# Altium schematic symbol library LaserDiode_Driver.SchLib: 93 symbols (part 3 of 3)
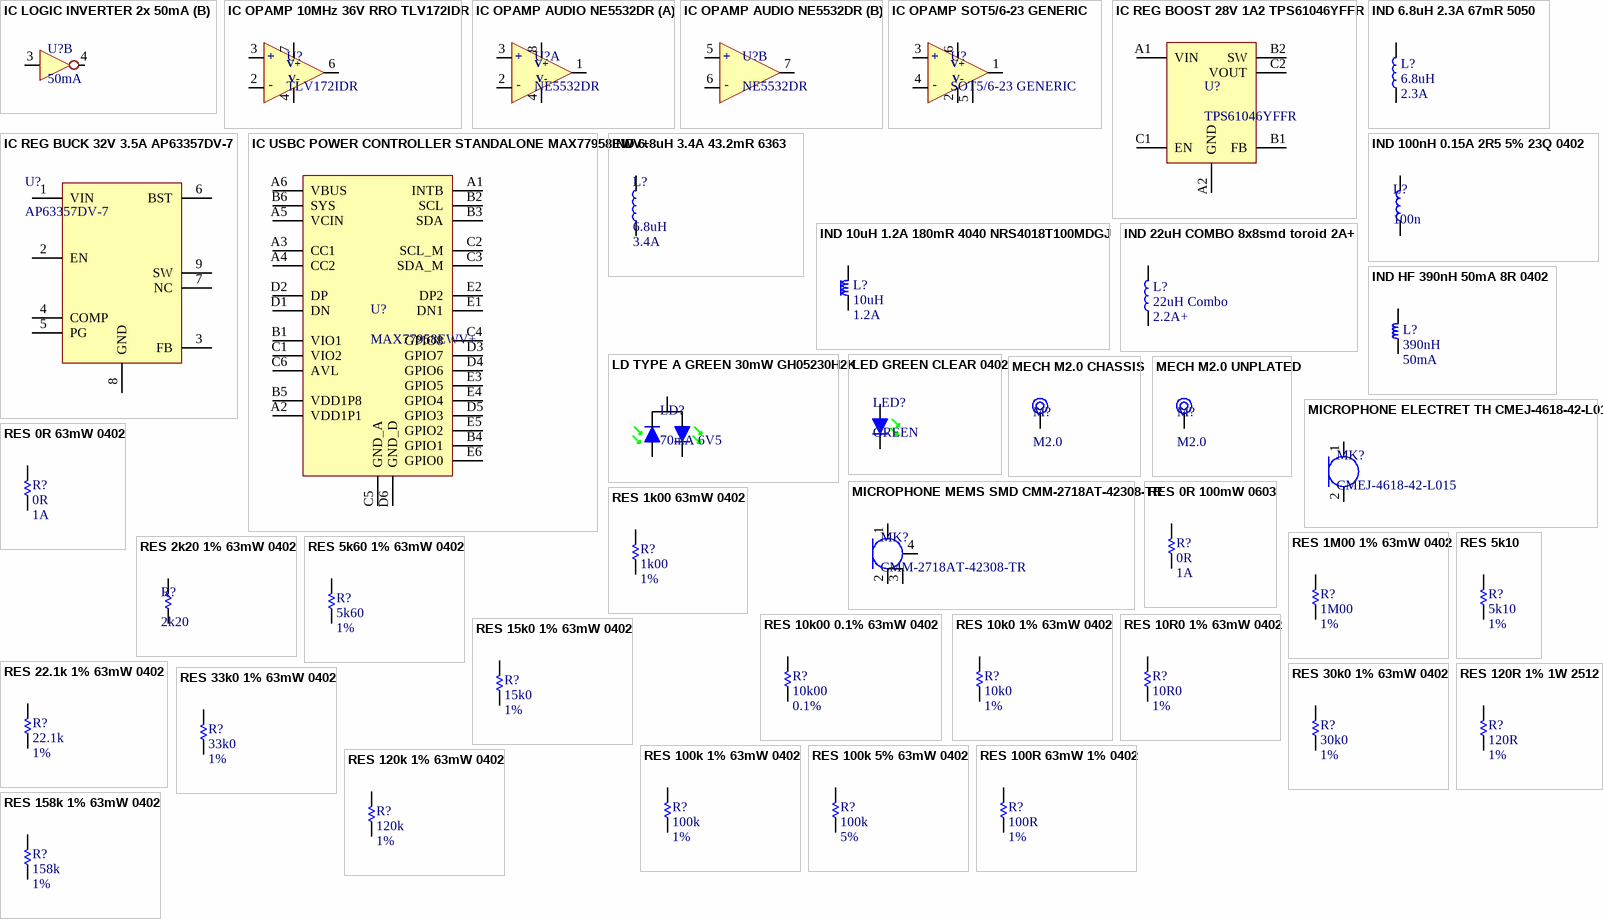
[diagram p4: symbols IC LOGIC INVERTER 2x 50mA to RES 158k 1% 63mW 0402]

## RES 10k0 1% 63mW 0402
designator R?, comment 10k0  Tolerance: 1%
Res General Purpose Thick Film 0402 10K Ohm 1% 1/16W ±100ppm/°C Molded SMD Paper T/R; Manufacturer: Yageo; Manufacturer Part Number: RC0402FR-0710KL; Resistance: 10kR; Voltage Rating (DC): 50V; Power Rating: 62.5mW; Max Power Dissipation: 63mW; Supplier 1: RSComponents; RoHS: Yes; Category: Chip SMD Resistors; Stock 1: 29900; Pricing 1: 10000=0.00300 (GBP); Case/Package: 0402; Number of Pins: 2; Case Code (Imperial): 0402; Case Code (Metric): 1005; Min Operating Temperature: -55°C; Max Operating Temperature: 155°C; Resistor Type: Thick Film; Temperature Coefficient: 100ppm/°C; Packaging: Tape and Reel; Voltage Rating: 50V; Termination: SMD/SMT; Working Voltage: 50V; Number of Terminations: 2; Features: Moisture Resistant; Series: RC; Resistance Tolerance: 1%; Construction: Rectangular; Length: 1mm; Width: 0.5mm; Height: 0.32mm; Depth: 0.5mm; Lead Pitch: 0.2mm; REACH SVHC: No SVHC; Lead Free: Lead Free; RoHS Compliant: Yes; Military Standard: Not; ComponentLink1URL: https://datasheet.ciiva.com/7660/38568-7660787.pdf?src-supplier=Element14; ComponentLink1Description: https://datasheet.ciiva.com/7660/38568-7660787.pdf?src-supplier=Element14; ComponentLink2URL: https://datasheet.ciiva.com/12667/pyu-rc0402-51-rohs-l-6-r-12667067.pdf?src-supplier=Mouser; ComponentLink2Description: https://datasheet.ciiva.com/12667/pyu-rc0402-51-rohs-l-6-r-12667067.pdf?src-supplier=Mouser; ComponentLink3URL: https://datasheet.ciiva.com/7849/1784430-7849813.pdf?src-supplier=Element14; ComponentLink3Description: https://datasheet.ciiva.com/7849/1784430-7849813.pdf?src-supplier=Element14; ComponentLink4URL: https://datasheet.ciiva.com/7849/1686128-7849814.pdf?src-supplier=Element14; ComponentLink4Description: https://datasheet.ciiva.com/7849/1686128-7849814.pdf?src-supplier=Element14; ComponentLink5URL: https://datasheet.ciiva.com/7849/1784430-7849815.pdf?src-supplier=Element14; ComponentLink5Description: https://datasheet.ciiva.com/7849/1784430-7849815.pdf?src-supplier=Element14; ComponentLink6URL: https://datasheet.ciiva.com/7983/1018594-7983486.pdf?src-supplier=Element14; ComponentLink6Description: https://datasheet.ciiva.com/7983/1018594-7983486.pdf?src-supplier=Element14; ComponentLink7URL: https://datasheet.ciiva.com/22747/1018594-22747512.pdf?src-supplier=Element14; ComponentLink7Description: https://datasheet.ciiva.com/22747/1018594-22747512.pdf?src-supplier=Element14; Supplier Part Number 1: 1987643
footprint r0402
pins: 1, 2

## RES 10R0 1% 63mW 0402
designator R?, comment 10R0  Tolerance: 1%
Res Thick Film 0402 10 Ohm 1% 0.063W(1/16W) ±100ppm/C Pad SMD T/R; Manufacturer: Samsung; Manufacturer Part Number: RC1005F100CS; Resistance: 10R; Max Power Dissipation: 63mW; Temperature Coefficient: 100ppm/°C; Voltage Rating (DC): 50V; Supplier 1: Digi-Key; RoHS: Yes; Category: Chip SMD Resistors; Stock 1: 7440; Pricing 1: 1=0.10000, 10=0.01800, 100=0.00720, 1000=0.00323, 2500=0.00281, 5000=0.00232 (USD); Case/Package: 0402; Case Code (Metric): 1005; Case Code (Imperial): 0402; Contact Plating: Tin; Min Operating Temperature: -55°C; Max Operating Temperature: 155°C; Packaging: Tape and Reel; Resistor Type: Thick Film; Package Quantity: 1; Number of Terminations: 2; Features: Moisture Resistant; Series: RC; Construction: Rectangular; Length: 0.039inch; Width: 0.02inch; Height: 0.016inch; Depth: 0.5mm; Radiation Hardening: No; Military Standard: Not; Lead Free: Lead Free; RoHS Compliant: Yes; ComponentLink1URL: http://components.arrow.com/part/dataview/51848233S9968285N4139?src-supplier=Arrow+Electronics; ComponentLink1Description: http://components.arrow.com/part/dataview/51848233S9968285N4139?src-supplier=Arrow+Electronics; ComponentLink2URL: http://components.arrow.com/part/dataview/0323_06900041?src-supplier=Arrow+Europe; ComponentLink2Description: http://components.arrow.com/part/dataview/0323_06900041?src-supplier=Arrow+Europe; ComponentLink3URL: http://www.samsungsem.com/servlet/FileDownload?type=spec&file=RC1005F9090CS.pdf&src-supplier=Avnet; ComponentLink3Description: http://www.samsungsem.com/servlet/FileDownload?type=spec&file=RC1005F9090CS.pdf&src-supplier=Avnet; ComponentLink4URL: http://www.samsungsem.com/kr/support/product-search/chip-resistor/RC1005F100CS.jsp?src-supplier=Digi-Key; ComponentLink4Description: http://www.samsungsem.com/kr/support/product-search/chip-resistor/RC1005F100CS.jsp?src-supplier=Digi-Key; Supplier Part Number 1: 1276-3428-1-ND
footprint R0402
pins: 1, 2

## RES 15k0 1% 63mW 0402
designator R?, comment 15k0  Tolerance: 1%
Res Thick Film 0402 15K Ohm 1% 0.063W(1/16W) ±100ppm/C Pad SMD Automotive T/R; Manufacturer: Stackpole Electronics; Manufacturer Part Number: RMCF0402FT15K0; Resistance: 15kR; Power Rating: 63mW; Temperature Coefficient: 100ppm/°C; Supplier 1: Digi-Key; RoHS: Yes; Category: Chip SMD Resistors; Stock 1: 18382; Pricing 1: 1=0.10000, 10=0.01500, 100=0.00610, 1000=0.00274, 2500=0.00238, 5000=0.00197 (USD); Mount: Surface Mount; Case/Package: 0402; Case Code (Metric): 1005; Case Code (Imperial): 0402; Contact Plating: Tin,Matte; Size Code: 0402; Min Operating Temperature: -55°C; Max Operating Temperature: 155°C; Packaging: Tape and Reel; Resistor Type: Thick Film; Number of Terminations: 2; Max Power Dissipation: 63mW; Features: Automotive AEC-Q200; Series: RMCF; Length: 0.039inch; Width: 0.02inch; Height: 0.016inch; Radiation Hardening: No; Lead Free: Lead Free; RoHS Compliant: Yes; ComponentLink1URL: http://components.arrow.com/part/dataview/50576585S147344N1174?src-supplier=Arrow+Electronics; ComponentLink1Description: http://components.arrow.com/part/dataview/50576585S147344N1174?src-supplier=Arrow+Electronics; ComponentLink2URL: http://www1.futureelectronics.com/doc/STACKPOLE%20ELECTRONICS/RMCF-1__16S-15K-1%25-R.pdf?src-supplier=Future+Electronics; ComponentLink2Description: http://www1.futureelectronics.com/doc/STACKPOLE%20ELECTRONICS/RMCF-1__16S-15K-1%25-R.pdf?src-supplier=Future+Electronics; ComponentLink3URL: https://www.seielect.com/catalog/SEI-RMCF_RMCP.pdf?src-supplier=Avnet; ComponentLink3Description: https://www.seielect.com/catalog/SEI-RMCF_RMCP.pdf?src-supplier=Avnet; ComponentLink4URL: https://www.seielect.com/catalog/sei-rmcf_rmcp.pdf?src-supplier=Digi-Key; ComponentLink4Description: https://www.seielect.com/catalog/sei-rmcf_rmcp.pdf?src-supplier=Digi-Key; Supplier Part Number 1: RMCF0402FT15K0CT-ND
footprint r0402
pins: 1, 2

## RES 22.1k 1% 63mW 0402
designator R?, comment 22.1k  Tolerance: 1%
Res Thick Film 0402 22.1K Ohm 1% 0.063W(1/16W) ±100ppm/°C Pad SMD T/R; Manufacturer: Yageo; Manufacturer Part Number: RC0402FR-0722K1L; Resistance: 22.1kR; Power Rating: 62.5mW; Voltage Rating: 50V; Max Power Dissipation: 63mW; Supplier 1: Newark; RoHS: Yes; Category: Chip SMD Resistors; Stock 1: 107993; Pricing 1: 1=0.06100, 10=0.00800, 25=0.00600, 50=0.00500, 100=0.00300 (USD); Case/Package: 0402; Case Code (Metric): 1005; Case Code (Imperial): 0402; Min Operating Temperature: -55°C; Max Operating Temperature: 155°C; Package Quantity: 1; Packaging: Tape and Reel; Resistor Type: Thick Film; Number of Terminations: 2; Termination: SMD/SMT; Temperature Coefficient: 100ppm/°C; Voltage Rating (DC): 50V; Working Voltage: 50V; Features: Moisture Resistant; Series: RC; Technology: THICK FILM; Resistance Tolerance: 1%; Construction: Rectangular; Length: 0.039inch; Width: 0.02inch; Height: 0.016inch; Depth: 0.5mm; Reach SVHC Compliant: Yes; Military Standard: Not; Lead Free: Lead Free; RoHS Compliant: Yes; ComponentLink1URL: https://datasheet.ciiva.com/7983/1018594-7983501.pdf?src-supplier=Element14; ComponentLink1Description: https://datasheet.ciiva.com/7983/1018594-7983501.pdf?src-supplier=Element14; ComponentLink2URL: https://datasheet.ciiva.com/2553/pyu-r-int-thick-7-2553201.pdf?src-supplier=Digi-Key; ComponentLink2Description: https://datasheet.ciiva.com/2553/pyu-r-int-thick-7-2553201.pdf?src-supplier=Digi-Key; ComponentLink3URL: https://datasheet.ciiva.com/2553/pyu-r-int-thick-7-2553202.pdf?src-supplier=Digi-Key; ComponentLink3Description: https://datasheet.ciiva.com/2553/pyu-r-int-thick-7-2553202.pdf?src-supplier=Digi-Key; ComponentLink4URL: https://datasheet.ciiva.com/2553/pyu-r-int-thick-7-2553200.pdf?src-supplier=Digi-Key; ComponentLink4Description: https://datasheet.ciiva.com/2553/pyu-r-int-thick-7-2553200.pdf?src-supplier=Digi-Key; ComponentLink5URL: https://datasheet.ciiva.com/15189/getdatasheetpartid-251817-15189388.pdf?src-supplier=Verical; ComponentLink5Description: https://datasheet.ciiva.com/15189/getdatasheetpartid-251817-15189388.pdf?src-supplier=Verical; Supplier Part Number 1: 82AH7906
footprint R0402
pins: 1, 2

## RES 30k0 1% 63mW 0402
designator R?, comment 30k0  Tolerance: 1%
Res General Purpose Thick Film 0402 30k Ohm 1% 1/16W ±100ppm/°C Molded Paper T/R; Manufacturer: Yageo; Manufacturer Part Number: RC0402FR-0730KL; Resistance: 30kR; Power Rating: 62.5mW; Voltage Rating: 50V; Max Power Dissipation: 63mW; Supplier 1: Digi-Key; RoHS: Yes; Category: Chip SMD Resistors; Stock 1: 1354843; Pricing 1: 10000=0.00186 (USD); Case/Package: 0402; Case Code (Imperial): 0402; Case Code (Metric): 1005; Weight: 2.3E-05oz; Size Code: 0402; Min Operating Temperature: -55°C; Max Operating Temperature: 155°C; Packaging: Tape and Reel; Termination: SMD/SMT; Resistor Type: Thick Film; Temperature Coefficient: 100ppm/°C; Voltage Rating (DC): 50V; Features: Moisture Resistant; Series: RC; Number of Terminations: 2; Resistance Tolerance: 1%; Construction: Rectangular; Length: 1mm; Width: 0.5mm; Height: 0.35mm; Depth: 0.5mm; RoHS Compliant: Yes; REACH SVHC: Unknown; Military Standard: Not; Lead Free: Lead Free; ComponentLink1URL: https://datasheet.ciiva.com/12577/pyu-rc0402-51-rohs-l-6-r-12577743.pdf?src-supplier=Mouser; ComponentLink1Description: https://datasheet.ciiva.com/12577/pyu-rc0402-51-rohs-l-6-r-12577743.pdf?src-supplier=Mouser; ComponentLink2URL: https://datasheet.ciiva.com/7849/1018594-7849957.pdf?src-supplier=Element14; ComponentLink2Description: https://datasheet.ciiva.com/7849/1018594-7849957.pdf?src-supplier=Element14; ComponentLink3URL: https://datasheet.ciiva.com/46394/1018594-46394938.pdf?src-supplier=Element14; ComponentLink3Description: https://datasheet.ciiva.com/46394/1018594-46394938.pdf?src-supplier=Element14; Supplier Part Number 1: 311-30.0KLRTR-ND
footprint r0402
pins: 1, 2

## RES 33k0 1% 63mW 0402
designator R?, comment 33k0  Tolerance: 1%
Res Thick Film 0402 33K Ohm 1% 0.063W(1/16W) ±100ppm/C Pad SMD T/R; Manufacturer: Samsung; Manufacturer Part Number: RC1005F333CS; Resistance: 33kR; Max Power Dissipation: 63mW; Temperature Coefficient: 100ppm/°C; Voltage Rating (DC): 50V; Supplier 1: Digi-Key; RoHS: Yes; Category: Chip SMD Resistors; Stock 1: 330000; Pricing 1: 10000=0.00695 (USD); Case/Package: 0402; Case Code (Metric): 1005; Case Code (Imperial): 0402; Contact Plating: Tin; Min Operating Temperature: -55°C; Max Operating Temperature: 155°C; Packaging: Tape and Reel; Resistor Type: Thick Film; Package Quantity: 1; Number of Terminations: 2; Features: Moisture Resistant; Series: RC; Construction: Rectangular; Length: 0.039inch; Width: 0.02inch; Height: 0.016inch; Depth: 0.5mm; Radiation Hardening: No; Military Standard: Not; Lead Free: Lead Free; RoHS Compliant: Yes; ComponentLink1URL: http://components.arrow.com/part/dataview/51978774S9968740N4139?src-supplier=Arrow+Electronics; ComponentLink1Description: http://components.arrow.com/part/dataview/51978774S9968740N4139?src-supplier=Arrow+Electronics; ComponentLink2URL: http://components.arrow.com/part/dataview/0323_06900084?src-supplier=Arrow+Europe; ComponentLink2Description: http://components.arrow.com/part/dataview/0323_06900084?src-supplier=Arrow+Europe; ComponentLink3URL: http://www.samsungsem.com/servlet/FileDownload?type=spec&file=RC1005F9090CS.pdf&src-supplier=Avnet; ComponentLink3Description: http://www.samsungsem.com/servlet/FileDownload?type=spec&file=RC1005F9090CS.pdf&src-supplier=Avnet; ComponentLink4URL: http://www.samsungsem.com/kr/support/product-search/chip-resistor/RC1005F333CS.jsp?src-supplier=Digi-Key; ComponentLink4Description: http://www.samsungsem.com/kr/support/product-search/chip-resistor/RC1005F333CS.jsp?src-supplier=Digi-Key; Supplier Part Number 1: 1276-3461-2-ND
footprint r0402
pins: 1, 2

## RES 100k 1% 63mW 0402
designator R?, comment 100k  Tolerance: 1%
Res Thick Film 0402 100K Ohm 1% 0.063W ±100ppm/°C Molded SMD Paper T/R; Manufacturer: Stackpole Electronics; Manufacturer Part Number: RMCF0402FT100K; Resistance: 100kR; Power Rating: 62.5mW; Max Power Dissipation: 63mW; Supplier 1: Avnet; RoHS: Yes; Category: Chip SMD Resistors; Stock 1: 3260000; Pricing 1: 10000=0.00170, 20000=0.00168, 40000=0.00163, 60000=0.00160, 80000=0.00154, 100000=0.00150, 1000000=0.00146 (USD); Mount: Surface Mount; Case/Package: 0402; Case Code (Metric): 1005; Case Code (Imperial): 0402; Contact Plating: Tin,Matte; Size Code: 0402; Min Operating Temperature: -55°C; Max Operating Temperature: 155°C; Packaging: Tape and Reel; Resistor Type: Thick Film; Number of Terminations: 2; Temperature Coefficient: 100ppm/°C; Features: Automotive AEC-Q200; Series: RMCF; Construction: Rectangular; Length: 1mm; Width: 0.02inch; Height: 0.016inch; Depth: 0.5mm; Radiation Hardening: No; Military Standard: Not; Lead Free: Lead Free; RoHS Compliant: Yes; ComponentLink1URL: https://datasheet.ciiva.com/15193/getdatasheetpartid-482656-15193415.pdf?src-supplier=Verical; ComponentLink1Description: https://datasheet.ciiva.com/15193/getdatasheetpartid-482656-15193415.pdf?src-supplier=Verical; Supplier Part Number 1: RMCF0402FT100K
footprint r0402
pins: 1, 2

## RES 100k 5% 63mW 0402
designator R?, comment 100k  Tolerance: 5%
Res Thick Film 0402 100K Ohm 5% 1/16W ±200ppm/°C Molded SMD SMD; Manufacturer: TE Connectivity; Manufacturer Part Number: CRG0402J100K/10; Resistance: 100kR; Power Rating: 63mW; Voltage Rating (DC): 50V; Supplier 1: Digi-Key; RoHS: Yes; Category: Chip SMD Resistors; Stock 1: 463648; Pricing 1: 1=0.10000, 10=0.02000, 100=0.00820, 1000=0.00369, 2500=0.00320, 5000=0.00264 (USD); Mount: Surface Mount; Case/Package: 0402; Case Code (Imperial): 0402; Weight: 2.3E-05oz; Min Operating Temperature: -55°C; Max Operating Temperature: 125°C; Package Quantity: 10000; Packaging: Tape and Reel; Resistor Type: Thick Film; Number of Terminations: 2; Temperature Coefficient: 200ppm/°C; Max Power Dissipation: 63mW; Voltage Rating: 50V; Series: CRG, Neohm; Termination: SMD/SMT; Technology: THICK FILM; Construction: Rectangular; Resistance Tolerance: 5%; Length: 1mm; Width: 0.5mm; Height: 0.35mm; Depth: 0.5mm; Radiation Hardening: No; Military Standard: Not; ELV: Compliant; REACH SVHC: Unknown; RoHS Compliant: Yes; ComponentLink1URL: https://datasheet.ciiva.com/11810/0900766b800a696e-11810123.pdf?src-supplier=RSComponents; ComponentLink1Description: https://datasheet.ciiva.com/11810/0900766b800a696e-11810123.pdf?src-supplier=RSComponents; ComponentLink2URL: https://datasheet.ciiva.com/30197/eng-ds-1773204-e-30197534.pdf?src-supplier=Onlinecomponents.com; ComponentLink2Description: https://datasheet.ciiva.com/30197/eng-ds-1773204-e-30197534.pdf?src-supplier=Onlinecomponents.com; ComponentLink3URL: https://datasheet.ciiva.com/2529/eng-ds-1773204-i-2529694.pdf?src-supplier=Digi-Key; ComponentLink3Description: https://datasheet.ciiva.com/2529/eng-ds-1773204-i-2529694.pdf?src-supplier=Digi-Key; Supplier Part Number 1: A121521CT-ND
footprint R0402
pins: 1, 2

## RES 100R 63mW 1% 0402
designator R?, comment 100R  Tolerance: 1%
Res General Purpose Thick Film 0402 100 Ohm 1% 1/16W ±100ppm/°C Molded SMD Paper T/R; Manufacturer: Yageo; Manufacturer Part Number: RC0402FR-07100RL; Power Rating: 62.5mW; Voltage Rating: 50V; Max Power Dissipation: 63mW; Supplier 1: Newark; RoHS: Yes; Category: Chip SMD Resistors; Stock 1: 4390000; Pricing 1: 1=0.00100, 10000=0.00100 (USD); Case/Package: 0402; Number of Pins: 2; Case Code (Imperial): 0402; Case Code (Metric): 1005; Size Code: 0402; Min Operating Temperature: -55°C; Max Operating Temperature: 155°C; Voltage Rating (DC): 50V; Resistance: 100R; Packaging: Tape and Reel; Termination: SMD/SMT; Resistor Type: Thick Film; Temperature Coefficient: 100ppm/°C; Features: Moisture Resistant; Series: RC; Number of Terminations: 2; Resistance Tolerance: 1%; Construction: Rectangular; Technology: THICK FILM; Length: 1mm; Width: 0.5mm; Height: 0.32mm; Depth: 0.5mm; RoHS Compliant: Yes; Reach SVHC Compliant: Yes; Military Standard: Not; Lead Free: Lead Free; ComponentLink1URL: https://datasheet.ciiva.com/11808/0900766b80c66297-11808765.pdf?src-supplier=RSComponents; ComponentLink1Description: https://datasheet.ciiva.com/11808/0900766b80c66297-11808765.pdf?src-supplier=RSComponents; ComponentLink2URL: https://datasheet.ciiva.com/7849/1784430-7849810.pdf?src-supplier=Element14; ComponentLink2Description: https://datasheet.ciiva.com/7849/1784430-7849810.pdf?src-supplier=Element14; ComponentLink3URL: https://datasheet.ciiva.com/28367/1018594-28367226.pdf?src-supplier=Element14; ComponentLink3Description: https://datasheet.ciiva.com/28367/1018594-28367226.pdf?src-supplier=Element14; ComponentLink4URL: https://datasheet.ciiva.com/22747/1018594-22747511.pdf?src-supplier=Element14; ComponentLink4Description: https://datasheet.ciiva.com/22747/1018594-22747511.pdf?src-supplier=Element14; ComponentLink5URL: https://datasheet.ciiva.com/12667/pyu-rc0402-51-rohs-l-6-r-12667957.pdf?src-supplier=Mouser; ComponentLink5Description: https://datasheet.ciiva.com/12667/pyu-rc0402-51-rohs-l-6-r-12667957.pdf?src-supplier=Mouser; ComponentLink6URL: https://datasheet.ciiva.com/15189/getdatasheetpartid-329466-15189335.pdf?src-supplier=Verical; ComponentLink6Description: https://datasheet.ciiva.com/15189/getdatasheetpartid-329466-15189335.pdf?src-supplier=Verical; ComponentLink7URL: https://datasheet.ciiva.com/16740/pyu-rc0402-51-rohs-l-6-r-16740566.pdf?src-supplier=Future+Electronics; ComponentLink7Description: https://datasheet.ciiva.com/16740/pyu-rc0402-51-rohs-l-6-r-16740566.pdf?src-supplier=Future+Electronics; Supplier Part Number 1: 45Y6897
footprint R0402
pins: 1, 2

## RES 120k 1% 63mW 0402
designator R?, comment 120k  Tolerance: 1%
Res General Purpose Thick Film 0402 120K Ohm 1% 1/16W ±100ppm/°C Molded SMD Paper T/R; Manufacturer: Yageo; Manufacturer Part Number: RC0402FR-07120KL; Resistance: 120kR; Power Rating: 63mW; Voltage Rating: 50V; Supplier 1: RSComponents; RoHS: Yes; Category: Chip SMD Resistors; Stock 1: 18500; Pricing 1: 10000=0.00100 (GBP); Case/Package: 0402; Case Code (Imperial): 0402; Case Code (Metric): 1005; Weight: 2.3E-05oz; Min Operating Temperature: -55°C; Max Operating Temperature: 155°C; Packaging: Tape and Reel; Package Quantity: 1; Termination: SMD/SMT; Resistor Type: Thick Film; Number of Terminations: 2; Temperature Coefficient: 100ppm/°C; Max Power Dissipation: 63mW; Working Voltage: 50V; Features: Moisture Resistant; Series: RC; Resistance Tolerance: 1%; Technology: THICK FILM; Construction: Rectangular; Length: 1mm; Width: 0.5mm; Height: 0.016inch; Depth: 0.5mm; REACH SVHC: Unknown; Military Standard: Not; Lead Free: Lead Free; RoHS Compliant: Yes; ComponentLink1URL: https://datasheet.ciiva.com/11808/0900766b80c66297-11808308.pdf?src-supplier=RSComponents; ComponentLink1Description: https://datasheet.ciiva.com/11808/0900766b80c66297-11808308.pdf?src-supplier=RSComponents; ComponentLink2URL: https://datasheet.ciiva.com/2453/pyu-r-int-thick-7-2453517.pdf?src-supplier=Digi-Key; ComponentLink2Description: https://datasheet.ciiva.com/2453/pyu-r-int-thick-7-2453517.pdf?src-supplier=Digi-Key; ComponentLink3URL: https://datasheet.ciiva.com/2453/pyu-r-int-thick-7-2453518.pdf?src-supplier=Digi-Key; ComponentLink3Description: https://datasheet.ciiva.com/2453/pyu-r-int-thick-7-2453518.pdf?src-supplier=Digi-Key; ComponentLink4URL: https://datasheet.ciiva.com/2453/pyu-r-int-thick-7-2453519.pdf?src-supplier=Digi-Key; ComponentLink4Description: https://datasheet.ciiva.com/2453/pyu-r-int-thick-7-2453519.pdf?src-supplier=Digi-Key; ComponentLink5URL: https://datasheet.ciiva.com/12577/pyu-rc0402-51-rohs-l-6-r-12577334.pdf?src-supplier=Mouser; ComponentLink5Description: https://datasheet.ciiva.com/12577/pyu-rc0402-51-rohs-l-6-r-12577334.pdf?src-supplier=Mouser; ComponentLink6URL: https://datasheet.ciiva.com/16741/pyu-rc0402-51-rohs-l-6-r-16741433.pdf?src-supplier=Future+Electronics; ComponentLink6Description: https://datasheet.ciiva.com/16741/pyu-rc0402-51-rohs-l-6-r-16741433.pdf?src-supplier=Future+Electronics; ComponentLink7URL: https://datasheet.ciiva.com/7849/1018594-7849829.pdf?src-supplier=Element14; ComponentLink7Description: https://datasheet.ciiva.com/7849/1018594-7849829.pdf?src-supplier=Element14; Supplier Part Number 1: 1987650
footprint r0402
pins: 1, 2

## RES 120R 1% 1W 2512
designator R?, comment 120R  Tolerance: 1%
RES SMD 120 OHM 1% 1W 2512; Manufacturer: Yageo; Manufacturer Part Number: RC2512FK-07120RL; Temperature Coefficient: 100ppm/°C; Voltage Rating: 200V; Supplier 1: Newark; RoHS: Yes; Category: Chip SMD Resistors; Stock 1: 1840; Pricing 1: 1=0.37700, 10=0.20200, 25=0.16100, 50=0.12000, 100=0.07900 (USD); Case/Package: 2512; Contact Plating: Tin,Matte,Lead; Case Code (Imperial): 2512; Case Code (Metric): 6432; Min Operating Temperature: -55°C; Max Operating Temperature: 155°C; Power Rating: 1W; Resistance: 120R; Resistor Type: Thick Film; Packaging: Tape and Reel; Number of Terminations: 2; Termination: SMD/SMT; Max Power Dissipation: 1W; Features: Moisture Resistant; Series: RC; Construction: Rectangular; Length: 6.35mm; Width: 0.122inch; Height: 0.026inch; Depth: 3.1mm; Radiation Hardening: No; Military Standard: Not; RoHS Compliant: Yes; ComponentLink1URL: https://datasheet.ciiva.com/12575/pyu-rc2512-51-rohs-l-4-12575294.pdf?src-supplier=Mouser; ComponentLink1Description: https://datasheet.ciiva.com/12575/pyu-rc2512-51-rohs-l-4-12575294.pdf?src-supplier=Mouser; Supplier Part Number 1: 82AH8664
footprint R2512
pins: 1, 2

## RES 158k 1% 63mW 0402
designator R?, comment 158k  Tolerance: 1%
Res Thick Film 0402 158K Ohm 1% 1/10W +/-100ppm/ßC Molded SMD Punched Carrier T/R; Manufacturer: Panasonic; Manufacturer Part Number: ERJ-2RKF1583X; Resistance: 158kR; Power Rating: 100mW; Voltage Rating: 50V; Temperature Coefficient: 100ppm/°C; Supplier 1: Digi-Key; RoHS: Yes; Category: Chip SMD Resistors; Stock 1: 163473; Pricing 1: 1=0.10000, 10=0.03100, 100=0.01250, 1000=0.00563, 2500=0.00489, 5000=0.00404 (USD); Mount: Surface Mount; Case/Package: 0402; Case Code (Metric): 1005; Case Code (Imperial): 0402; Contact Plating: Tin; Size Code: 0402; Min Operating Temperature: -55°C; Max Operating Temperature: 155°C; Packaging: Tape and Reel; Package Quantity: 1; Resistor Type: Thick Film; Number of Terminations: 2; Termination: SMD/SMT; Max Power Dissipation: 100mW; Voltage Rating (DC): 50V; Features: Automotive AEC-Q200; Series: ERJ; Resistance Tolerance: 1%; Construction: Rectangular; Technology: THICK FILM; Length: 1mm; Width: 0.02inch; Height: 0.35mm; Depth: 0.5mm; Radiation Hardening: No; REACH SVHC: Yes; Military Standard: Not; Lead Free: Lead Free; RoHS Compliant: Yes; ComponentLink1URL: https://datasheet.ciiva.com/43467/1678782-43467497.pdf?src-supplier=Farnell; ComponentLink1Description: https://datasheet.ciiva.com/43467/1678782-43467497.pdf?src-supplier=Farnell; ComponentLink2URL: https://datasheet.ciiva.com/28555/1694929-28555398.pdf?src-supplier=Element14; ComponentLink2Description: https://datasheet.ciiva.com/28555/1694929-28555398.pdf?src-supplier=Element14; ComponentLink3URL: https://datasheet.ciiva.com/24026/aoa0000ce2-24026455.pdf?src-supplier=Mouser; ComponentLink3Description: https://datasheet.ciiva.com/24026/aoa0000ce2-24026455.pdf?src-supplier=Mouser; ComponentLink4URL: https://datasheet.ciiva.com/16770/70260748-16770061.pdf?src-supplier=Allied+Electronics; ComponentLink4Description: https://datasheet.ciiva.com/16770/70260748-16770061.pdf?src-supplier=Allied+Electronics; ComponentLink5URL: https://datasheet.ciiva.com/9119/aoa0000ce2-9119237.pdf?src-supplier=Avnet; ComponentLink5Description: https://datasheet.ciiva.com/9119/aoa0000ce2-9119237.pdf?src-supplier=Avnet; ComponentLink6URL: https://datasheet.ciiva.com/16514/aoa0000ce2-16514234.pdf?src-supplier=Avnet+Asia; ComponentLink6Description: https://datasheet.ciiva.com/16514/aoa0000ce2-16514234.pdf?src-supplier=Avnet+Asia; Supplier Part Number 1: P158KLCT-ND
footprint r0402
pins: 1, 2

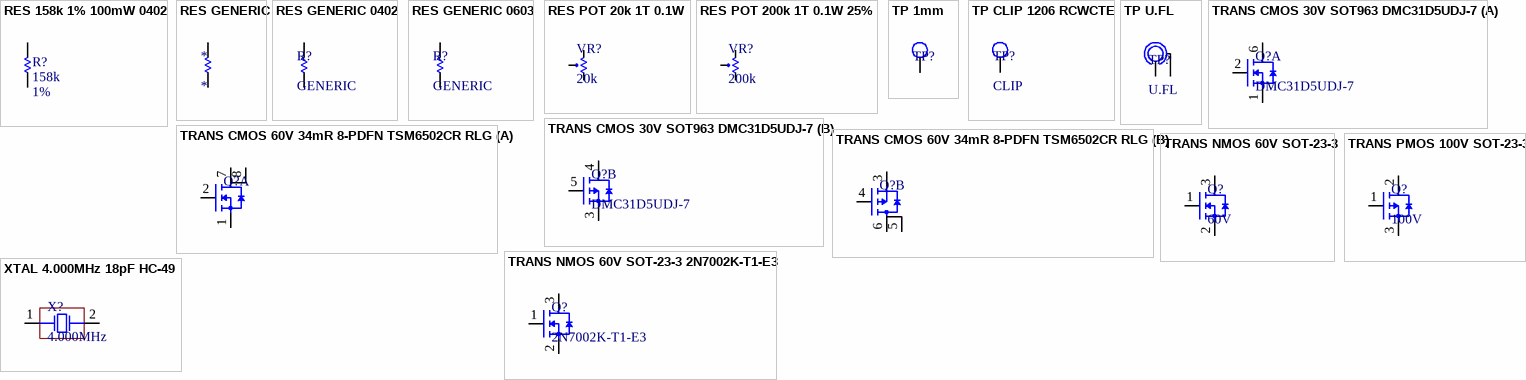
[diagram p2: symbols RES 158k 1% 100mW 0402 to XTAL 4.000MHz 18pF HC-49]

## RES 158k 1% 100mW 0402
designator R?, comment 158k  Tolerance: 1%
Res Thick Film 0402 158K Ohm 1% 1/10W +/-100ppm/ßC Molded SMD Punched Carrier T/R; Manufacturer: Panasonic; Manufacturer Part Number: ERJ-2RKF1583X; Resistance: 158kR; Power Rating: 100mW; Voltage Rating: 50V; Temperature Coefficient: 100ppm/°C; Supplier 1: Newark; RoHS: Yes; Category: Chip SMD Resistors; Stock 1: 50000; Pricing 1: 1=0.00200, 10000=0.00200 (USD); Mount: Surface Mount; Case/Package: 0402; Case Code (Metric): 1005; Case Code (Imperial): 0402; Contact Plating: Tin; Size Code: 0402; Min Operating Temperature: -55°C; Max Operating Temperature: 155°C; Packaging: Tape and Reel; Package Quantity: 1; Resistor Type: Thick Film; Number of Terminations: 2; Termination: SMD/SMT; Max Power Dissipation: 100mW; Voltage Rating (DC): 50V; Features: Automotive AEC-Q200; Series: ERJ; Resistance Tolerance: 1%; Construction: Rectangular; Technology: THICK FILM; Length: 1mm; Width: 0.02inch; Height: 0.35mm; Depth: 0.5mm; Radiation Hardening: No; REACH SVHC: Yes; Military Standard: Not; Lead Free: Lead Free; RoHS Compliant: Yes; ComponentLink1URL: https://datasheet.ciiva.com/43467/1678782-43467497.pdf?src-supplier=Farnell; ComponentLink1Description: https://datasheet.ciiva.com/43467/1678782-43467497.pdf?src-supplier=Farnell; ComponentLink2URL: https://datasheet.ciiva.com/28555/1694929-28555398.pdf?src-supplier=Element14; ComponentLink2Description: https://datasheet.ciiva.com/28555/1694929-28555398.pdf?src-supplier=Element14; ComponentLink3URL: https://datasheet.ciiva.com/24026/aoa0000ce2-24026455.pdf?src-supplier=Mouser; ComponentLink3Description: https://datasheet.ciiva.com/24026/aoa0000ce2-24026455.pdf?src-supplier=Mouser; ComponentLink4URL: https://datasheet.ciiva.com/16770/70260748-16770061.pdf?src-supplier=Allied+Electronics; ComponentLink4Description: https://datasheet.ciiva.com/16770/70260748-16770061.pdf?src-supplier=Allied+Electronics; ComponentLink5URL: https://datasheet.ciiva.com/9119/aoa0000ce2-9119237.pdf?src-supplier=Avnet; ComponentLink5Description: https://datasheet.ciiva.com/9119/aoa0000ce2-9119237.pdf?src-supplier=Avnet; Supplier Part Number 1: 51W8950
footprint r0402
pins: 1, 2

## RES GENERIC
designator *
pins: 1, 2

## RES GENERIC 0402
designator R?, comment GENERIC
footprint R0402
pins: 1, 2

## RES GENERIC 0603
designator R?, comment GENERIC
footprint R0603
pins: 1, 2

## RES POT 20k 1T 0.1W
designator VR?, comment 20k
Res Trimmer 20K Ohm 25% 1/10W 1(Elec)/1(Mech)Turn (3 X 3.8mm) Foot Print SMD Embossed T/R; Manufacturer: Bourns; Manufacturer Part Number: TC33X-2-203E; Resistance: 20kR; Power Rating: 100mW; Number of Turns: 1; Temperature Coefficient: 250ppm/°C; Supplier 1: Digi-Key; RoHS: Yes; Category: Variable Resistors and Potentiometers; Stock 1: 95244; Pricing 1: 1=0.26000, 10=0.25200, 25=0.22760, 50=0.21700, 100=0.21000, 250=0.19600, 500=0.17850, 1000=0.16100 (USD); Mount: Surface Mount; Min Operating Temperature: -40°C; Max Operating Temperature: 100°C; Tolerance: 25%; Packaging: Tape and Reel; Package Quantity: 2500; Resistor Type: Cermet; Termination: Foot Print; Max Power Dissipation: 100mW; Series: TC33; Resistance Tolerance: 25%; Length: 3mm; Width: 0.118inch; Height: 0.047inch; Depth: 3.8mm; Radiation Hardening: No; REACH SVHC: No SVHC; Military Standard: Not; RoHS Compliant: Yes; ComponentLink1URL: https://datasheet.ciiva.com/22671/1537288-22671216.pdf?src-supplier=Element14; ComponentLink1Description: https://datasheet.ciiva.com/22671/1537288-22671216.pdf?src-supplier=Element14; ComponentLink2URL: https://datasheet.ciiva.com/11833/0900766b802749b3-11833400.pdf?src-supplier=RSComponents; ComponentLink2Description: https://datasheet.ciiva.com/11833/0900766b802749b3-11833400.pdf?src-supplier=RSComponents; ComponentLink3URL: https://datasheet.ciiva.com/6227/tc33-6227117.pdf?src-supplier=Digi-Key; ComponentLink3Description: https://datasheet.ciiva.com/6227/tc33-6227117.pdf?src-supplier=Digi-Key; ComponentLink4URL: https://datasheet.ciiva.com/6227/tc33-6227118.pdf?src-supplier=Digi-Key; ComponentLink4Description: https://datasheet.ciiva.com/6227/tc33-6227118.pdf?src-supplier=Digi-Key; ComponentLink5URL: https://datasheet.ciiva.com/6227/tc33-6227119.pdf?src-supplier=Digi-Key; ComponentLink5Description: https://datasheet.ciiva.com/6227/tc33-6227119.pdf?src-supplier=Digi-Key; ComponentLink6URL: https://datasheet.ciiva.com/30078/tc33-30078556.pdf?src-supplier=Onlinecomponents.com; ComponentLink6Description: https://datasheet.ciiva.com/30078/tc33-30078556.pdf?src-supplier=Onlinecomponents.com; ComponentLink7URL: https://datasheet.ciiva.com/15156/getdatasheetpartid-128027-15156621.pdf?src-supplier=Verical; ComponentLink7Description: https://datasheet.ciiva.com/15156/getdatasheetpartid-128027-15156621.pdf?src-supplier=Verical; ComponentLink8URL: https://datasheet.ciiva.com/7953/1818686-7953350.pdf?src-supplier=Element14; ComponentLink8Description: https://datasheet.ciiva.com/7953/1818686-7953350.pdf?src-supplier=Element14; ComponentLink9URL: https://datasheet.ciiva.com/22718/1520225-22718588.pdf?src-supplier=Element14; ComponentLink9Description: https://datasheet.ciiva.com/22718/1520225-22718588.pdf?src-supplier=Element14; Supplier Part Number 1: TC33X-2-203ECT-ND
footprint RV TC33X-2
pins: 1, 2, 3

## RES POT 200k 1T 0.1W 25%
designator VR?, comment 200k
Res Trimmer 200K Ohm 25% 1/10W 1(Elec)/1(Mech)Turn (3 X 3.8mm) Foot Print SMD Embossed T/R; Manufacturer: Bourns; Manufacturer Part Number: TC33X-2-204E; Resistance: 200kR; Power Rating: 100mW; Temperature Coefficient: 250ppm/°C; Supplier 1: Digi-Key; RoHS: Yes; Category: Variable Resistors and Potentiometers; Stock 1: 4250; Pricing 1: 1=0.26000, 10=0.25500, 25=0.22960, 50=0.21920, 100=0.21210, 250=0.19796, 500=0.18028, 1000=0.16261 (USD); Mount: Surface Mount; Min Operating Temperature: -40°C; Max Operating Temperature: 120°C; Package Quantity: 1; Tolerance: 25%; Packaging: Tape and Reel; Resistor Type: Cermet,Carbon; Termination: SMD/SMT; Max Power Dissipation: 100mW; Series: Trimpot® TC33 - Open Frame; Length: 0.15inch; Width: 0.118inch; Height: 0.047inch; Radiation Hardening: No; RoHS Compliant: Yes; ComponentLink1URL: https://datasheet.ciiva.com/8700/tc33-8700183.pdf?src-supplier=Avnet; ComponentLink1Description: https://datasheet.ciiva.com/8700/tc33-8700183.pdf?src-supplier=Avnet; ComponentLink2URL: https://datasheet.ciiva.com/6227/tc33-6227132.pdf?src-supplier=Digi-Key; ComponentLink2Description: https://datasheet.ciiva.com/6227/tc33-6227132.pdf?src-supplier=Digi-Key; Supplier Part Number 1: TC33X-2-204ECT-ND
footprint RV TC33X-2
pins: 1, 2, 3

## TP 1mm
designator TP?, comment 1mm  (value not drawn)  (no BOM)
SMT testpoint
footprint TESTPOINT_SMT (testpoint smt)
pins: 1

## TP CLIP 1206 RCWCTE
designator TP?, comment CLIP
Current Sense Resistors - SMD CHIP CHECKER HT=2.0 1206; Manufacturer: KOA Speer; Manufacturer Part Number: RCWCTE; Resistance: 0R; Current Rating: 2A; Supplier 1: Digi-Key; RoHS: Yes; Category: Chip SMD Resistors; Stock 1: 282207; Pricing 1: 1=0.16000, 10=0.13700, 25=0.12120, 50=0.11320, 100=0.10500, 250=0.09292, 500=0.08888, 1000=0.07272 (USD); Mount: Surface Mount; Case/Package: 1206; Case Code (Imperial): 1206; Case Code (Metric): 3216; Min Operating Temperature: -55°C; Max Operating Temperature: 125°C; Packaging: Tape and Reel; Termination: SMD/SMT; Series: RC; Length: 3.2mm; Width: 1.6mm; Height: 2mm; Depth: 1.6mm; Military Standard: Not; RoHS Compliant: Yes; ComponentLink1URL: https://datasheet.ciiva.com/34302/1876186-34302940.pdf?src-supplier=Jameco; ComponentLink1Description: https://datasheet.ciiva.com/34302/1876186-34302940.pdf?src-supplier=Jameco; ComponentLink2URL: https://datasheet.ciiva.com/5556/rc-5556236.pdf?src-supplier=Mouser; ComponentLink2Description: https://datasheet.ciiva.com/5556/rc-5556236.pdf?src-supplier=Mouser; ComponentLink3URL: https://datasheet.ciiva.com/26821/getdatasheetpartid-110197-26821157.pdf?src-supplier=Verical; ComponentLink3Description: https://datasheet.ciiva.com/26821/getdatasheetpartid-110197-26821157.pdf?src-supplier=Verical; Supplier Part Number 1: 2019-RCWCTECT-ND
footprint TESTPOINT_CLIP_1206
pins: 1

## TP U.FL
designator TP?, comment U.FL
CONN U.FL RCPT STR 50 OHM SMD; Manufacturer: Hirose; Manufacturer Part Number: U.FL-R-SMT-1(80); Body Material: Bronze; Body Plating: Silver; Center Contact Plating: Gold; Dielectric Material: Polymer; Connector Type: Receptacle,Male Pin; Impedance: 50R; Max Frequency: 6GHz; Number of Ports: 1; Mating Cycles: 30; Supplier 1: Future Electronics; RoHS: Yes; Category: RF / Coaxial Connectors; Stock 1: 40000; Pricing 1: 10000=0.81500, 20000=0.80000, 30000=0.78500 (USD); Mount: Surface Mount; Case/Package: SMD/SMT; Contact Material: Brass; Housing Color: Beige; Min Operating Temperature: -40°C; Max Operating Temperature: 90°C; Package Quantity: 10000; Packaging: Tape and Reel; Fastening Type: SNAP-ON; Series: U.FL; Termination: Solder; Lead Free: Lead Free; RoHS Compliant: Yes; ComponentLink1URL: http://www.mouser.com/ds/2/185/U.FL_catalog-939761.pdf?src-supplier=Mouser; ComponentLink1Description: http://www.mouser.com/ds/2/185/U.FL_catalog-939761.pdf?src-supplier=Mouser; ComponentLink2URL: https://www.hirose.com/product/en/download_file/key_name/U.FL-R-SMT-1%2880%29/category/Specification%20Sheet/doc_file_id/37638/?file_category_id=9&item_id=03310472280&is_series=&src-supplier=Digi-Key; ComponentLink2Description: https://www.hirose.com/product/en/download_file/key_name/U.FL-R-SMT-1%2880%29/category/Specification%20Sheet/doc_file_id/37638/?file_category_id=9&item_id=03310472280&is_series=&src-supplier=Digi-Key
footprint U.FL (SOT23, 6-Leads, Body 2.90x2.80mm, Pitch 0.95mm, IPC Low Density)
pins: 0, 1

## TRANS CMOS 30V SOT963 DMC31D5UDJ-7
designator Q?, comment DMC31D5UDJ-7
Complementary Pair Enhancement Mode Mosfet, N+p, 30V Vds, 12±V Vgs; Manufacturer: Diodes; Continuous Drain Current (ID): 200mA; Rds On Max: 1.5R; Input Capacitance: 22.6pF; Max Power Dissipation: 350mW; Number of Channels: 2; Drain to Source Resistance: 5.1R; Fall Time: 8.7ns; Rise Time: 5.2ns; Turn-Off Delay Time: 18.8ns; Turn-On Delay Time: 3.5ns; FET Type: N and P-Channel; Capacitance: 2.22E-11F; Supplier 1: Digi-Key; Manufacturer Part Number: DMC31D5UDJ-7; RoHS: Yes; Category: MOSFETs; Stock 1: 103163; Pricing 1: 1=0.46000, 10=0.39000, 100=0.29110, 500=0.22868, 1000=0.17672, 2000=0.16112, 5000=0.15073 (USD); Mount: Surface Mount; Case/Package: SOT-963; Min Operating Temperature: -55°C; Max Operating Temperature: 150°C; Packaging: Tape and Reel; Drain to Source Voltage (Vdss): 30V; Gate to Source Voltage (Vgs): 12V; Package Quantity: 10000; RoHS Compliant: Yes; ComponentLink1URL: http://www.mouser.com/ds/2/115/DMC31D5UDJ-355884.pdf?src-supplier=Mouser; ComponentLink1Description: http://www.mouser.com/ds/2/115/DMC31D5UDJ-355884.pdf?src-supplier=Mouser; Supplier Part Number 1: DMC31D5UDJ-7DICT-ND
footprint SOT963 6pin 1x1mm DIODES (SOTFL, 6-Leads, Body 1.00x1.00mm, Pitch 0.35mm, IPC Medium Density)
part A pins: 1 S, 2 G, 6 D
part B pins: 3 S, 4 S, 5 G

## TRANS CMOS 60V 34mR 8-PDFN TSM6502CR RLG
designator Q?, comment TSM6502CR RLG  (value not drawn)
-60V, -18A, Complementary P-Channel Power MOSFET; 60V, 24A, Complementary N-Channel Power MOSFET; Manufacturer: Taiwan Semiconductor; FET Type: N and P-Channel; Continuous Drain Current (ID): 18A; Rds On Max: 34mR; Input Capacitance: 1.159nF; Max Power Dissipation: 40W; Supplier 1: Digi-Key; Manufacturer Part Number: TSM6502CR RLG; RoHS: Yes; Stock 1: 4997; Pricing 1: 1=2.48000, 10=2.23200, 100=1.79380, 500=1.47378, 1000=1.22113 (USD); Mount: Surface Mount; Number of Pins: 8; Min Operating Temperature: -55°C; Max Operating Temperature: 150°C; Packaging: Cut Tape; Drain to Source Voltage (Vdss): 60V; ComponentLink1URL: http://www.taiwansemi.com/products/datasheet/TSM6502CR_A1701.pdf?src-supplier=Digi-Key; ComponentLink1Description: http://www.taiwansemi.com/products/datasheet/TSM6502CR_A1701.pdf?src-supplier=Digi-Key; Supplier Part Number 1: TSM6502CRRLGCT-ND
footprint PDFN-8 DUAL 5x6mm (SON, 8-Leads, Body 5.75x4.90mm, Pitch 1.27mm, IPC Medium Density)
part A pins: 1 S, 2 G, 7 D, 8 D
part B pins: 3 S, 4 G, 5 S, 6 S

## TRANS NMOS 60V SOT-23-3
designator Q?, comment 60V
N-Channel 60 V 0.2 W Surface Mount 2.5 V Drive Silicon Power Mosfet - SOT-23; Manufacturer: Rohm; Manufacturer Part Number: RK7002BMT116; Rds On Max: 2.4R; Input Capacitance: 15pF; Continuous Drain Current (ID): 250mA; Max Power Dissipation: 200mW; Number of Channels: 1; Drain to Source Resistance: 1.7R; Gate to Source Voltage (Vgs): 20V; Fall Time: 28ns; Rise Time: 5ns; Turn-Off Delay Time: 18ns; Turn-On Delay Time: 3.5ns; FET Type: 1 N-Channel; Supplier 1: Digi-Key; RoHS: Yes; Category: MOSFETs; Stock 1: 68809; Pricing 1: 1=0.16000, 10=0.14900, 100=0.08100, 500=0.04986, 1000=0.03399 (USD); Mount: Surface Mount; Case/Package: TO-236-3; Max Operating Temperature: 150°C; Package Quantity: 3000; Packaging: Tape and Reel; Drain to Source Voltage (Vdss): 60V; Drain to Source Breakdown Voltage: 60V; Lead Free: Lead Free; RoHS Compliant: Yes; ComponentLink1URL: http://www.farnell.com/datasheets/2197948.pdf?src-supplier=Farnell; ComponentLink1Description: http://www.farnell.com/datasheets/2197948.pdf?src-supplier=Farnell; ComponentLink2URL: http://www.mouser.com/ds/2/348/rk7002bmt116-e-1018209.pdf?src-supplier=Mouser; ComponentLink2Description: http://www.mouser.com/ds/2/348/rk7002bmt116-e-1018209.pdf?src-supplier=Mouser; ComponentLink3URL: http://rohmfs.rohm.com/en/techdata_basic/transistor/taping/SST3_T116_taping.pdf?src-supplier=Digi-Key; ComponentLink3Description: http://rohmfs.rohm.com/en/techdata_basic/transistor/taping/SST3_T116_taping.pdf?src-supplier=Digi-Key; ComponentLink4URL: http://rohmfs.rohm.com/en/products/databook/datasheet/discrete/transistor/mosfet/rk7002bm.pdf?src-supplier=Avnet; ComponentLink4Description: http://rohmfs.rohm.com/en/products/databook/datasheet/discrete/transistor/mosfet/rk7002bm.pdf?src-supplier=Avnet; ComponentLink5URL: http://www.farnell.com/datasheets/2197948.pdf?src-supplier=Newark; ComponentLink5Description: http://www.farnell.com/datasheets/2197948.pdf?src-supplier=Newark; ComponentLink6URL: http://www.farnell.com/datasheets/2197948.pdf?src-supplier=Element14; ComponentLink6Description: http://www.farnell.com/datasheets/2197948.pdf?src-supplier=Element14; Supplier Part Number 1: RK7002BMT116CT-ND
footprint SOT 23-3
pins: 1 G, 2 S, 3 D

## TRANS NMOS 60V SOT-23-3 2N7002K-T1-E3
designator Q?, comment 2N7002K-T1-E3
Trans MOSFET N-CH 60V 0.3A 3-Pin SOT-23 T/R - Tape and Reel (Alt: 2N7002K-T1-E3); Manufacturer: Vishay Siliconix; Nominal Vgs: 2V; Rds On Max: 2R; Input Capacitance: 30pF; Number of Elements: 1; Max Power Dissipation: 200mW; Continuous Drain Current (ID): 300mA; Drain to Source Breakdown Voltage: 70V; Drain to Source Resistance: 7.5R; Gate to Source Voltage (Vgs): 20V; Turn-Off Delay Time: 35ns; Power Dissipation: 350mW; Turn-On Delay Time: 25ns; Element Configuration: Single; Polarity: N-CHANNEL; Polarization: N; Supplier 1: Newark; Manufacturer Part Number: 2N7002K-T1-E3; RoHS: Yes; Category: MOSFETs; Stock 1: 29333; Pricing 1: 1=0.38000, 25=0.31000, 50=0.26100, 100=0.21200, 250=0.18600, 500=0.15900 (USD); Mount: Surface Mount; Case/Package: SOT-23-3; Number of Pins: 3; Weight: 0.050717oz; Min Operating Temperature: -55°C; Max Operating Temperature: 150°C; Packaging: Tape and Reel; Package Quantity: 1; Drain to Source Voltage (Vdss): 60V; Threshold Voltage: 2V; Number of Channels: 1; On-State Resistance: 2R; Series: TrenchFET®; Drain-source On Resistance-Max: 2R; Length: 3.04mm; Width: 1.4mm; Height: 1.02mm; Radiation Hardening: No; Lead Free: Lead Free; RoHS Compliant: Yes; ComponentLink1URL: https://datasheet.ciiva.com/15137/getdatasheetpartid-75158-15137377.pdf?src-supplier=Verical; ComponentLink1Description: https://datasheet.ciiva.com/15137/getdatasheetpartid-75158-15137377.pdf?src-supplier=Verical; ComponentLink2URL: https://datasheet.ciiva.com/1254/70226-1254497.pdf?src-supplier=Newark; ComponentLink2Description: https://datasheet.ciiva.com/1254/70226-1254497.pdf?src-supplier=Newark; ComponentLink3URL: https://datasheet.ciiva.com/4440/70226-240087-4440695.pdf?src-supplier=Mouser; ComponentLink3Description: https://datasheet.ciiva.com/4440/70226-240087-4440695.pdf?src-supplier=Mouser; ComponentLink4URL: https://datasheet.ciiva.com/8084/2n7002k-8084215.pdf?src-supplier=Avnet; ComponentLink4Description: https://datasheet.ciiva.com/8084/2n7002k-8084215.pdf?src-supplier=Avnet; ComponentLink5URL: https://datasheet.ciiva.com/6367/2n7002k-6367013.pdf?src-supplier=Digi-Key; ComponentLink5Description: https://datasheet.ciiva.com/6367/2n7002k-6367013.pdf?src-supplier=Digi-Key; ComponentLink6URL: https://datasheet.ciiva.com/6367/2n7002k-6367016.pdf?src-supplier=Digi-Key; ComponentLink6Description: https://datasheet.ciiva.com/6367/2n7002k-6367016.pdf?src-supplier=Digi-Key; ComponentLink7URL: https://datasheet.ciiva.com/16376/2n7002k-16376713.pdf?src-supplier=Future+Electronics; ComponentLink7Description: https://datasheet.ciiva.com/16376/2n7002k-16376713.pdf?src-supplier=Future+Electronics; ComponentLink8URL: https://datasheet.ciiva.com/7788/2n7002k-7788909.pdf?src-supplier=Element14; ComponentLink8Description: https://datasheet.ciiva.com/7788/2n7002k-7788909.pdf?src-supplier=Element14; ComponentLink9URL: https://datasheet.ciiva.com/22749/1911668-22749621.pdf?src-supplier=Element14; ComponentLink9Description: https://datasheet.ciiva.com/22749/1911668-22749621.pdf?src-supplier=Element14; Supplier Part Number 1: 06J8894
footprint SOT 23-3
pins: 1 G, 2 S, 3 D

## TRANS PMOS 100V SOT-23-3
designator Q?, comment 100V
DMP10H4D2S Series 100V 270 mA P-Channel Enhancement Mode Mosfet - SOT-23-3; Manufacturer: Diodes; Manufacturer Part Number: DMP10H4D2S-7; Continuous Drain Current (ID): 270mA; Rds On Max: 4.2R; Input Capacitance: 87pF; Max Power Dissipation: 380mW; Supplier 1: Digi-Key; RoHS: Yes; Category: MOSFETs; Stock 1: 1201; Pricing 1: 1=0.44000, 10=0.33100, 100=0.20650, 500=0.14128, 1000=0.10868 (USD); Mount: Surface Mount; Case/Package: TO-236-3; Min Operating Temperature: -55°C; Max Operating Temperature: 150°C; Packaging: Tape and Reel; Drain to Source Voltage (Vdss): 100V; ComponentLink1URL: http://www.farnell.com/datasheets/2814419.pdf?src-supplier=Farnell; ComponentLink1Description: http://www.farnell.com/datasheets/2814419.pdf?src-supplier=Farnell; ComponentLink2URL: http://www.mouser.com/ds/2/115/DMP10H4D2S-773915.pdf?src-supplier=Mouser; ComponentLink2Description: http://www.mouser.com/ds/2/115/DMP10H4D2S-773915.pdf?src-supplier=Mouser; ComponentLink3URL: https://www.diodes.com/assets/Datasheets/DMP10H4D2S.pdf?src-supplier=Digi-Key; ComponentLink3Description: https://www.diodes.com/assets/Datasheets/DMP10H4D2S.pdf?src-supplier=Digi-Key; ComponentLink4URL: http://www.farnell.com/datasheets/2814419.pdf?src-supplier=Element14; ComponentLink4Description: http://www.farnell.com/datasheets/2814419.pdf?src-supplier=Element14; ComponentLink5URL: http://www.farnell.com/datasheets/2814419.pdf?src-supplier=Newark; ComponentLink5Description: http://www.farnell.com/datasheets/2814419.pdf?src-supplier=Newark; Supplier Part Number 1: DMP10H4D2S-7DICT-ND
footprint SOT 23-3 (Footprint not found)
pins: 1 G, 2 S, 3 S

## XTAL 4.000MHz 18pF HC-49
designator X?, comment 4.000MHz
Crystal 4MHz ±30ppm (Tol) ±50ppm (Stability) 18pF FUND 180Ohm 2-Pin HC-49/US SMD T/R; Manufacturer: Abracon; Manufacturer Part Number: ABLS-4.000MHZ-B4-T; ESR (Equivalent Series Resistance): 180R; Supplier 1: Digi-Key; RoHS: Yes; Category: Crystals; Stock 1: 302; Pricing 1: 1=0.32000, 10=0.26400, 50=0.23760, 100=0.21120, 500=0.20064 (USD); Mount: Surface Mount; Case/Package: SMD/SMT; Min Operating Temperature: -20°C; Max Operating Temperature: 70°C; Package Quantity: 1000; Frequency: 4MHz; Frequency Tolerance: 30ppm; Load Capacitance: 18pF; Packaging: Tape and Reel; Tolerance: 30ppm; Frequency Stability: 50ppm; Termination: SMD/SMT; Series: ABLS; Series Resistance: 180R; Operating Frequency: 4 MHz; Length: 11.4mm; Width: 0.185inch; Height: 0.165inch; Depth: 4.7mm; Radiation Hardening: No; REACH SVHC: Yes; Lead Free: Lead Free; ComponentLink1URL: https://datasheet.ciiva.com/15116/getdatasheetpartid-723826-15116860.pdf?src-supplier=Verical; ComponentLink1Description: https://datasheet.ciiva.com/15116/getdatasheetpartid-723826-15116860.pdf?src-supplier=Verical; ComponentLink2URL: https://datasheet.ciiva.com/860/abls-860304.pdf?src-supplier=Digi-Key; ComponentLink2Description: https://datasheet.ciiva.com/860/abls-860304.pdf?src-supplier=Digi-Key; ComponentLink3URL: https://datasheet.ciiva.com/860/abls-860305.pdf?src-supplier=Digi-Key; ComponentLink3Description: https://datasheet.ciiva.com/860/abls-860305.pdf?src-supplier=Digi-Key; ComponentLink4URL: https://datasheet.ciiva.com/860/abls-860306.pdf?src-supplier=Digi-Key; ComponentLink4Description: https://datasheet.ciiva.com/860/abls-860306.pdf?src-supplier=Digi-Key; ComponentLink5URL: https://datasheet.ciiva.com/3175/abls-3175417.pdf?src-supplier=Avnet; ComponentLink5Description: https://datasheet.ciiva.com/3175/abls-3175417.pdf?src-supplier=Avnet; Supplier Part Number 1: 535-10202-1-ND
footprint XTAL 2pin
pins: 1, 2